# EAGLE library part CD74HC74M96 (library ECE380)
Dual D Flip Flop
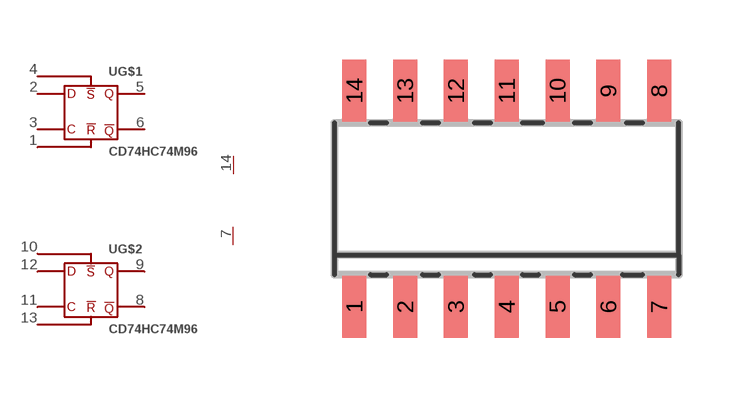
[diagram p1: symbol with the pads of SOIC14; footprint SOIC14]

Designator prefix -; gates G$1=DFF G$2=DFF G$3=1PWR_1GND

## CD74HC74M96  [SOIC14]
1  G$1:R  in
2  G$1:D  in
3  G$1:C  in
4  G$1:S  in
5  G$1:Q  out
6  G$1:QN  out
7  G$3:GND
8  G$2:QN  out
9  G$2:Q  out
10  G$2:S  in
11  G$2:C  in
12  G$2:D  in
13  G$2:R  in
14  G$3:VIN

## Footprint SOIC14 (pad centres in mm)
SOIC14 package
smd 0.6 x 1.55: 1 -3.81,-2.7; 2 -2.54,-2.7; 3 -1.27,-2.7; 4 0,-2.7; 5 1.27,-2.7; 6 2.54,-2.7; 7 3.81,-2.7; 8 3.81,2.7; 9 2.54,2.7; 10 1.27,2.7; 11 0,2.7; 12 -1.27,2.7; 13 -2.54,2.7; 14 -3.81,2.7